# EAGLE library part E?1X10 (library apbteam_con-amp-he14)
Male header simple row, 10 positions
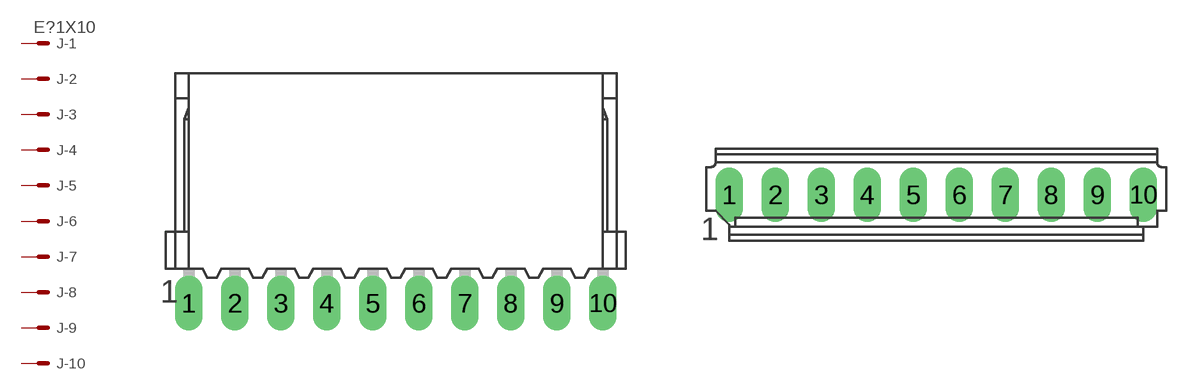
[diagram p4: symbol with the pads of EC1X10; footprints EC1X10, ED1X10]

Designator prefix J; gates -1=MS -2=M -3=M -4=M -5=M -6=M -7=M -8=M -9=M -10=M

## EC1X10  [EC1X10]
1  -1:S  pas
2  -2:S  pas
3  -3:S  pas
4  -4:S  pas
5  -5:S  pas
6  -6:S  pas
7  -7:S  pas
8  -8:S  pas
9  -9:S  pas
10  -10:S  pas

## ED1X10  [ED1X10]
Pads as for EC1X10

## Footprint EC1X10 (pad centres in mm)
Male header simple row, 90° exits, 10 positions HE14, tin plated: 1-281 698-0 HE14, gold plated version: 1-142 777-0 HE13, gold plated version: 1-281 699-0
drill 1 long: 1 -11.43,0; 2 -8.89,0; 3 -6.35,0; 4 -3.81,0; 5 -1.27,0; 6 1.27,0; 7 3.81,0; 8 6.35,0; 9 8.89,0; 10 11.43,0

## Footprint ED1X10 (pad centres in mm)
Male header simple row, straight exits, 10 positions HE14, tin plated: 1-281 695-0 HE14, gold plated version: 1-142 776-0 HE13, gold plated version: 1-281 696-0
drill 1 long: 1 -11.43,0; 2 -8.89,0; 3 -6.35,0; 4 -3.81,0; 5 -1.27,0; 6 1.27,0; 7 3.81,0; 8 6.35,0; 9 8.89,0; 10 11.43,0